# Altium schematic symbol library TSW-102-08-T-S.SchLib: 1 symbol
Pins are listed as number, name and electrical type; pins without a type are passive.

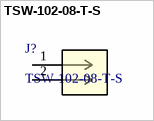
[diagram p0: symbol TSW-102-08-T-S]

## TSW-102-08-T-S
designator J?
No Description Available; Manufacturer_Name: Samtec Inc; Copyright: Copyright (C) 2026 Ultra Librarian. All rights reserved.; Manufacturer_Part_Number: TSW-102-08-T-S; RefDes: RefDes; Type: Type
footprint CON2_1X2_TU_TSW
pins: 1, 2